# Altium schematic symbol library example.SchLib: 3 symbols
Pins are listed as number, name and electrical type; pins without a type are passive.

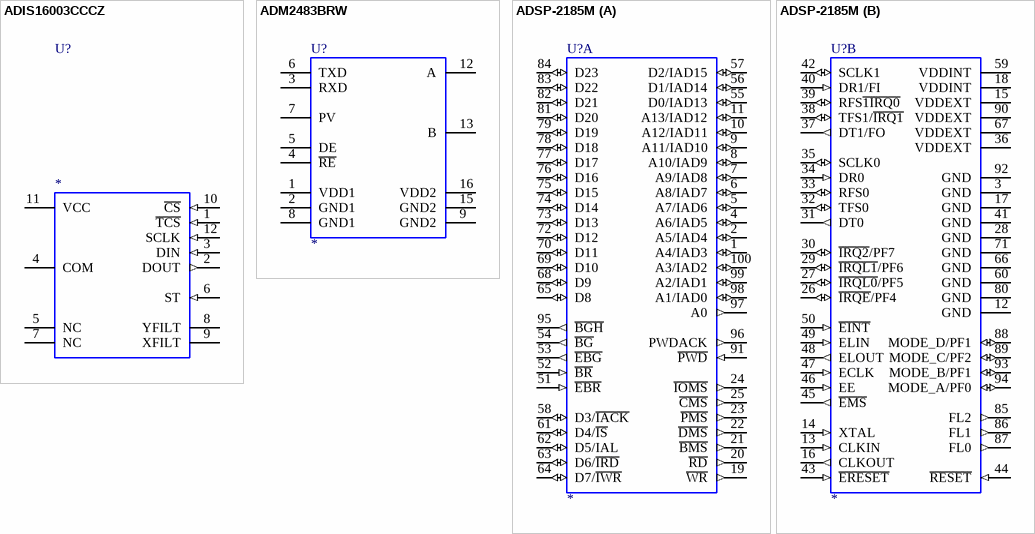
[diagram p0: symbols ADIS16003CCCZ to ADSP-2185M]

## ADIS16003CCCZ
designator U?
Dual-Axis ±1.7 g Accelerometer with SPI Interface
footprint LGA12 (Footprint not found)
pins: 1 ~{TCS} (in), 2 DOUT (out), 3 DIN (in), 4 COM (power), 5 NC, 6 ST (in), 7 NC, 8 YFILT, 9 XFILT, 10 ~{CS} (in), 11 VCC (power), 12 SCLK (in)

## ADM2483BRW
designator U?
footprint SO16W
pins: 1 VDD1, 2 GND1, 3 RXD (power), 4 ~{RE} (power), 5 DE (power), 6 TXD (power), 7 PV, 8 GND1, 9 GND2, 12 A (power), 13 B (power), 15 GND2, 16 VDD2

## ADSP-2185M
designator U?
footprint VQ100
part A pins: 1 A4/IAD3 (io), 2 A5/IAD4 (io), 4 A6/IAD5 (io), 5 A7/IAD6 (io), 6 A8/IAD7 (io), 7 A9/IAD8 (io), 8 A10/IAD9 (io), 9 A11/IAD10 (io), 10 A12/IAD11 (io), 11 A13/IAD12 (io), 19 ~{WR} (out), 20 ~{RD} (out), 21 ~{BMS} (out), 22 ~{DMS} (out), 23 ~{PMS} (out), 24 ~{IOMS} (out), 25 ~{CMS} (out), 51 ~{EBR} (in), 52 ~{BR} (in), 53 ~{EBG} (out), 54 ~{BG} (out), 55 D0/IAD13 (io), 56 D1/IAD14 (io), 57 D2/IAD15 (io), 58 D3/~{IACK} (io), 61 D4/~{IS} (io), 62 D5/IAL (io), 63 D6/~{IRD} (io), 64 D7/~{IWR} (io), 65 D8 (io), 68 D9 (io), 69 D10 (io), 70 D11 (io), 72 D12 (io), 73 D13 (io), 74 D14 (io), 75 D15 (io), 76 D16 (io), 77 D17 (io), 78 D18 (io), 79 D19 (io), 81 D20 (io), 82 D21 (io), 83 D22 (io), 84 D23 (io), 91 ~{PWD} (in), 95 ~{BGH} (out), 96 PWDACK (out), 97 A0 (out), 98 A1/IAD0 (io), 99 A2/IAD1 (io), 100 A3/IAD2 (io)
part B pins: 3 GND (power), 12 GND (power), 13 CLKIN (in), 14 XTAL (in), 15 VDDEXT, 16 CLKOUT (out), 17 GND (power), 18 VDDINT, 26 ~{IRQE}/PF4 (io), 27 ~{IRQL0}/PF5 (io), 28 GND (power), 29 ~{IRQL1}/PF6 (io), 30 ~{IRQ2}/PF7 (io), 31 DT0 (out), 32 TFS0 (io), 33 RFS0 (io), 34 DR0 (in), 35 SCLK0 (io), 36 VDDEXT (power), 37 DT1/FO (out), 38 TFS1/~{IRQ1} (io), 39 RFS~{1IRQ0} (io), 40 DR1/FI (in), 41 GND (power), 42 SCLK1 (io), 43 ~{ERESET} (in), 44 ~{RESET} (in), 45 ~{EMS} (out), 46 EE (in), 47 ECLK (in), 48 ELOUT (out), 49 ELIN (in), 50 ~{EINT} (in), 59 VDDINT, 60 GND (power), 66 GND (power), 67 VDDEXT (power), 71 GND (power), 80 GND (power), 85 FL2 (out), 86 FL1 (out), 87 FL0 (out), 88 MODE_D/PF1 (io), 89 MODE_C/PF2 (io), 90 VDDEXT (power), 92 GND (power), 93 MODE_B/PF1 (io), 94 MODE_A/PF0 (io)